# Altium schematic symbol library ADC.SchLib: 2 symbols
Pins are listed as number, name and electrical type; pins without a type are passive.

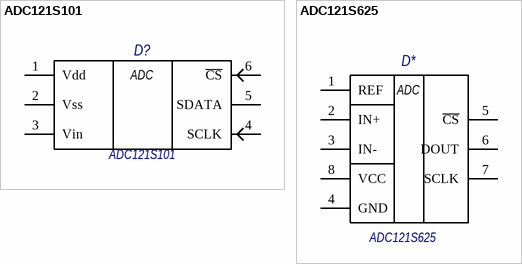
[diagram p0: symbols ADC121S101 to ADC121S625]

## ADC121S101
designator D?  Type: ADC121S101  (hidden comment: *)
footprint SOT-23-6
pins: 1 Vdd, 2 Vss, 3 Vin, 4 SCLK, 5 SDATA, 6 ~{CS}
text: ADC

## ADC121S625
designator D*  Type: ADC121S625  (hidden comment: *)
footprint MSOP-8
pins: 1 REF, 2 IN+, 3 IN-, 4 GND, 5 ~{CS}, 6 DOUT, 7 SCLK, 8 VCC
text: ADC